# EAGLE library part FT2232H-56Q (library FTDI)
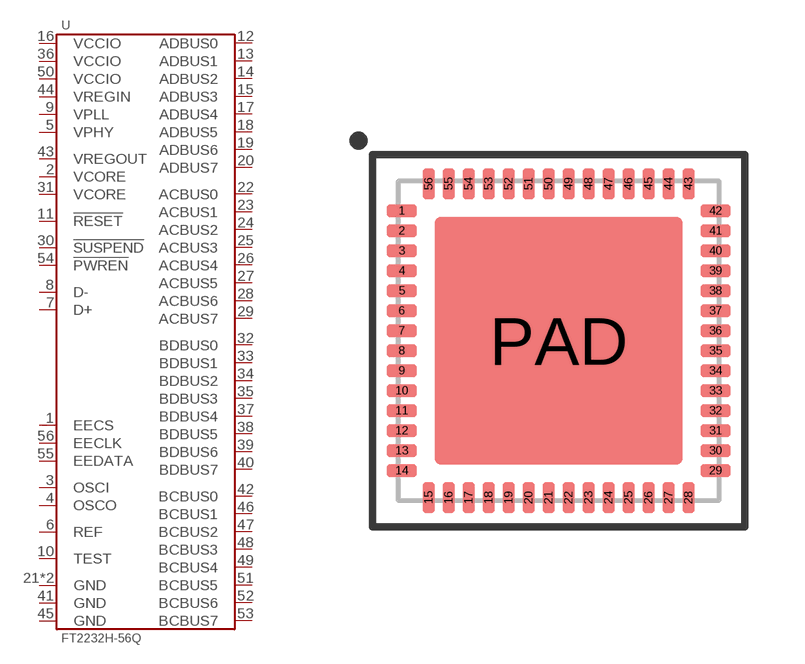
[diagram p9: symbol with the pads of VQFN-56; footprint VQFN-56]

Designator prefix U

## FT2232H-56Q  [VQFN-56]
1  EECS
2  VCORE
3  OSCI
4  OSCO
5  VPHY
6  REF
7  D+
8  D-
9  VPLL
10  TEST
11  !RESET
12  ADBUS0
13  ADBUS1
14  ADBUS2
15  ADBUS3
16  VCCIO
17  ADBUS4
18  ADBUS5
19  ADBUS6
20  ADBUS7
21  GND
22  ACBUS0
23  ACBUS1
24  ACBUS2
25  ACBUS3
26  ACBUS4
27  ACBUS5
28  ACBUS6
29  ACBUS7
30  !SUSPEND
31  VCORE
32  BDBUS0
33  BDBUS1
34  BDBUS2
35  BDBUS3
36  VCCIO
37  BDBUS4
38  BDBUS5
39  BDBUS6
40  BDBUS7
41  GND
42  BCBUS0
43  VREGOUT
44  VREGIN
45  GND
46  BCBUS1
47  BCBUS2
48  BCBUS3
49  BCBUS4
50  VCCIO
51  BCBUS5
52  BCBUS6
53  BCBUS7
54  !PWREN
55  EEDATA
56  EECLK
PAD  GND

## Footprint VQFN-56 (pad centres in mm)
smd 0.75 x 0.3: 1 -3.925,3.25; 2 -3.925,2.75; 3 -3.925,2.25; 4 -3.925,1.75; 5 -3.925,1.25; 6 -3.925,0.75; 7 -3.925,0.25; 8 -3.925,-0.25; 9 -3.925,-0.75; 10 -3.925,-1.25; 11 -3.925,-1.75; 12 -3.925,-2.25; 13 -3.925,-2.75; 14 -3.925,-3.25; 29 3.925,-3.25; 30 3.925,-2.75; 31 3.925,-2.25; 32 3.925,-1.75; 33 3.925,-1.25; 34 3.925,-0.75; 35 3.925,-0.25; 36 3.925,0.25; 37 3.925,0.75; 38 3.925,1.25; 39 3.925,1.75; 40 3.925,2.25; 41 3.925,2.75; 42 3.925,3.25
smd 0.3 x 0.75: 15 -3.25,-3.925; 16 -2.75,-3.925; 17 -2.25,-3.925; 18 -1.75,-3.925; 19 -1.25,-3.925; 20 -0.75,-3.925; 21 -0.25,-3.925; 22 0.25,-3.925; 23 0.75,-3.925; 24 1.25,-3.925; 25 1.75,-3.925; 26 2.25,-3.925; 27 2.75,-3.925; 28 3.25,-3.925; 43 3.25,3.925; 44 2.75,3.925; 45 2.25,3.925; 46 1.75,3.925; 47 1.25,3.925; 48 0.75,3.925; 49 0.25,3.925; 50 -0.25,3.925; 51 -0.75,3.925; 52 -1.25,3.925; 53 -1.75,3.925; 54 -2.25,3.925; 55 -2.75,3.925; 56 -3.25,3.925
smd 6.2 x 6.2: PAD 0,0